# EAGLE library part MCP25625 (library comma.ai)
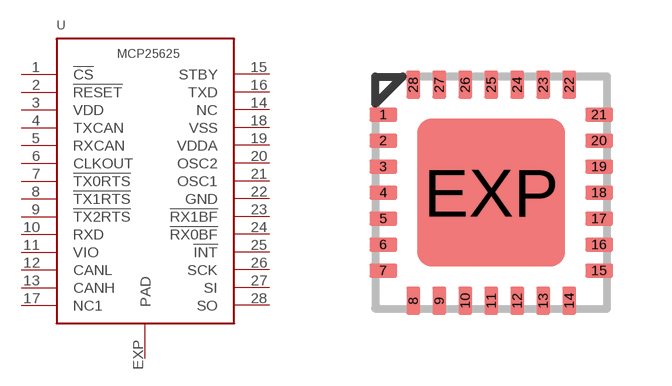
[diagram p8: symbol with the pads of QFN28-ML_6X6MM; footprint QFN28-ML_6X6MM]

Designator prefix -

## MCP25625  [QFN28-ML_6X6MM]
1  !CS
2  !RESET
3  VDD
4  TXCAN
5  RXCAN
6  CLKOUT
7  !TX0RTS
8  !TX1RTS
9  !TX2RTS
10  RXD
11  VIO
12  CANL
13  CANH
14  NC
15  STBY
16  TXD
17  NC1
18  VSS
19  VDDA
20  OSC2
21  OSC1
22  GND
23  !RX1BF
24  !RX0BF
25  !INT
26  SCK
27  SI
28  SO
EXP  PAD

## Footprint QFN28-ML_6X6MM (pad centres in mm)
QFN28-ML_6X6MM Source: http://www.microchip.com .. 39637a.pdf
smd 0.7 x 0.35: 1 -2.7,1.95; 2 -2.7,1.3; 3 -2.7,0.65; 4 -2.7,0; 5 -2.7,-0.65; 6 -2.7,-1.3; 7 -2.7,-1.95; 15 2.7,-1.95; 16 2.7,-1.3; 17 2.7,-0.65; 18 2.7,0; 19 2.7,0.65; 20 2.7,1.3; 21 2.7,1.95
smd 0.35 x 0.7: 8 -1.95,-2.7; 9 -1.3,-2.7; 10 -0.65,-2.7; 11 0,-2.7; 12 0.65,-2.7; 13 1.3,-2.7; 14 1.95,-2.7; 22 1.95,2.7; 23 1.3,2.7; 24 0.65,2.7; 25 0,2.7; 26 -0.65,2.7; 27 -1.3,2.7; 28 -1.95,2.7
smd 3.7 x 3.7: EXP 0,0